# Altium footprint library MAX6816.PcbLib: 1 footprints
Each footprint in its own frame and in the unit in brackets; x right, y up, seen from the top. Pads: shape width x height; smd on the part's side, far side on the other; paste and mask are expansions set on the pad; w line width, h text height; cw(c..) or ccw(c..) is an arc to the next point about the centre after c.
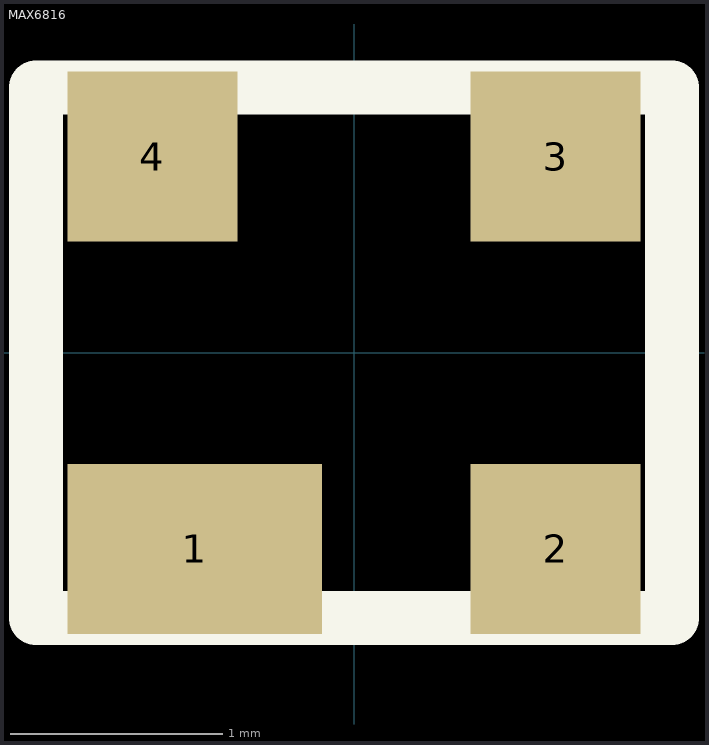
[diagram p0: the footprint, top view; thin cyan lines are the x and y axes]

## MAX6816 [mm]
height 0.1
pads (4):
  rect 1.2x0.8 smd: 1(-0.75,-0.925)
  rect 0.8x0.8 smd: 2(0.95,-0.925) 3(0.95,0.925) 4(-0.95,0.925)
Top Overlay:
  lines w0.254: -1.5,-1.25 1.5,-1.25 1.5,1.25 -1.5,1.25 -1.5,-1.25